# Altium schematic symbol library Diodes.SchLib: 4 symbols
Pins are listed as number, name and electrical type; pins without a type are passive.

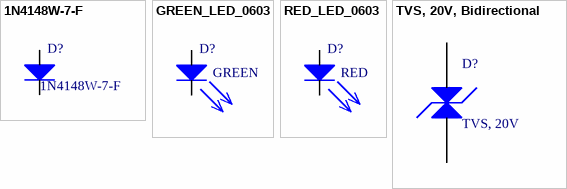
[diagram p0: symbols 1N4148W-7-F to TVS, 20V, Bidirectional]

## 1N4148W-7-F
designator D?
DIODE SWITCH 100V 0.15A SOD123; Manufacturer: Diodes Inc; Diode Type: Standard; Current - Average Rectified (Io): 150mA; Voltage - Forward (Vf) (Max) @ If: 1.25V @ 150mA; Speed: Small Signal =< 200mA (Io), Any Speed; Reverse Recovery Time (trr): 4ns; Current - Reverse Leakage @ Vr: 1µA @ 75V; Capacitance @ Vr, F: 2pF @ 0V, 1MHz; Thermal Resistance: 315°C/W Ja; Supplier 1: Digi-Key; RoHS: RoHS Compliant; Category: Discrete Semiconductor Products; Stock 1: 265869; Pricing 1: 1=0.17, 10=0.156, 25=0.1416, 100=0.102, 250=0.06008, 500=0.04984, 1000=0.03399 (USD); Packaging: Cut Tape (CT); Voltage - DC Reverse (Vr) (Max): 100V; Mounting Type: Surface Mount; Package / Case: SOD-123; Supplier Device Package: SOD-123; Operating Temperature - Junction: -65°C ~ 150°C; ComponentLink1URL: http://www.diodes.com/datasheets/ds30086.pdf; ComponentLink1Description: http://www.diodes.com/datasheets/ds30086.pdf; Supplier Part Number 1: 1N4148W-FDICT-ND; Manufacturer Part Number: 1N4148W-7-F
footprint SOD123 (SOIC, 2-Leads, Body 1.7x2.8mm (max), Pitch 1.27mm, IPC Medium Density)
pins: 1, 2

## GREEN_LED_0603
designator D?, comment GREEN
Green LED, 0603; Manufacturer: Lite-On Inc; Manufacturer Part Number: LTST-C193KGKT-5A; Description: LED GREEN RECT CLEAR 0603; Wavelength - Dominant: 572nm; Wavelength - Peak: 574nm; Millicandela Rating: 16.25mcd; Voltage - Forward (Vf) Typ: 2V; Current - Test: 5mA; Viewing Angle: 130°; Lens Type: Clear; Lens Style/Size: Rectangle with Flat Top, 1.15mm x 0.8mm; Supplier 1: Digi-Key; RoHS: RoHS Compliant; Category: Optoelectronics; Stock 1: 51950; Pricing 1: 1=0.42, 10=0.3, 100=0.1765, 250=0.12488, 500=0.10656, 1000=0.08325 (USD); Packaging: Cut Tape (CT); Color: Green; Package / Case: 0603 (1608 Metric); Size / Dimension: 1.60mm L x 0.80mm W; Height: 0.35mm; Mounting Type: Surface Mount; Luminous Flux @ Current - Test: -; ComponentLink1URL: http://optoelectronics.liteon.com/en-us/api/DwonloadFileHandler.ashx?txtSpecNo=DS22-2007-0094&txtPartNo=LTST-C193KGKT-5A; ComponentLink1Description: http://optoelectronics.liteon.com/en-us/api/DwonloadFileHandler.ashx?txtSpecNo=DS22-2007-0094&txtPartNo=LTST-C193KGKT-5A; Supplier Part Number 1: 160-1828-1-ND
footprint DIODE1608X03N (Chip Diode, 2-Leads, Body 1.6x0.8mm, IPC Medium Density, 0603, green)
pins: 1, 2

## RED_LED_0603
designator D?, comment RED
Red LED, 0603; Manufacturer: Panasonic Electronic Components - Semiconductor Products; Manufacturer Part Number: LNJ237W82RA; Description: LED RED HIGH BRIGHT ESS SMD; Wavelength - Dominant: 630nm; Wavelength - Peak: 645nm; Millicandela Rating: 7mcd; Voltage - Forward (Vf) Typ: 1.95V; Current - Test: 5mA; Lens Style/Size: Rectangle with Flat Top, 1.1mm x 0.8mm; Supplier 1: Digi-Key; RoHS: RoHS Compliant; Category: Optoelectronics; Stock 1: 21322; Pricing 1: 1=0.48, 10=0.345, 25=0.2684, 100=0.2031, 250=0.1436, 500=0.11494, 1000=0.08816, 2500=0.07663 (USD); Packaging: Cut Tape (CT); Color: Red; Viewing Angle: -; Lens Type: -; Package / Case: 0603 (1608 Metric); Size / Dimension: 1.60mm L x 0.80mm W; Height: 0.20mm; Mounting Type: Surface Mount; Luminous Flux @ Current - Test: -; ComponentLink1URL: http://industrial.panasonic.com/www-cgi/jvcr13pz.cgi?E+SC+4+ATA7003+LNJ237W82RA+8+WW; ComponentLink1Description: http://industrial.panasonic.com/www-cgi/jvcr13pz.cgi?E+SC+4+ATA7003+LNJ237W82RA+8+WW; Supplier Part Number 1: LNJ237W82RACT-ND
footprint DIODE1608X03N (Chip Diode, 2-Leads, Body 1.6x0.8mm, IPC Medium Density, 0603, green)
pins: 1, 2

## TVS, 20V, Bidirectional
designator D?, comment TVS, 20V
Transient voltage suppressor; Manufacturer: STMicroelectronics; Manufacturer Part Number: SMBJ18CA-TR; Description: TRANSIL 600W 18V BIDIRECT SMB; Voltage - Reverse Standoff (Typ): 18V; Power (Watts): 600W; Polarization: Bidirectional; Supplier 1: Digi-Key; RoHS: RoHS Compliant; Category: Circuit Protection; Stock 1: 32068; Pricing 1: 1=0.58, 10=0.457, 25=0.3856, 100=0.3141, 250=0.26012, 500=0.2149, 1000=0.16095 (USD); Packaging: Cut Tape (CT); Voltage - Breakdown: 20V; Mounting Type: Surface Mount; Package / Case: DO-214AA, SMB; Supplier Device Package: SMB; ComponentLink1URL: http://www.st.com/web/en/resource/technical/document/datasheet/CD00001366.pdf; ComponentLink1Description: http://www.st.com/web/en/resource/technical/document/datasheet/CD00001366.pdf; Supplier Part Number 1: 497-6512-1-ND
footprint DO-214AA (Molded TVS, 2-Leads, Body 4.1x3.6mm, IPC Medium Density)
pins: 1, 2